# EAGLE library part EL84 (library E88CC)
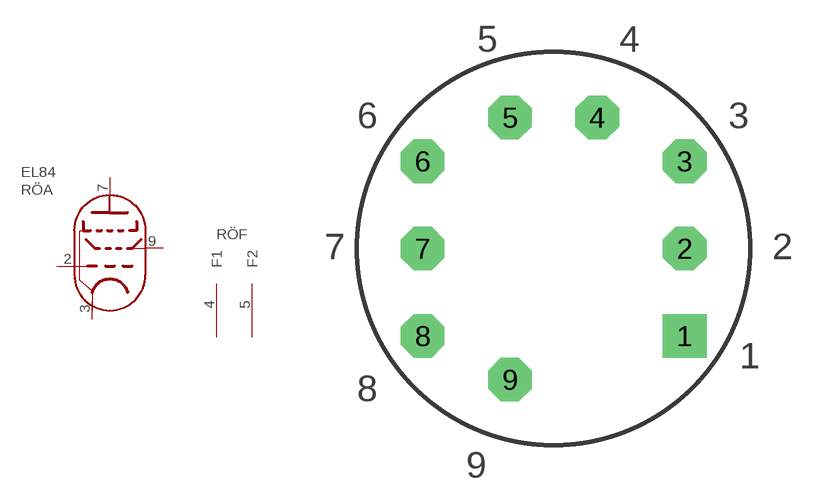
[diagram p0: symbol with the pads of NOVAL_P; footprint NOVAL_P]

Designator prefix RÖ; gates A=PENTODEA F=FADEN

## EL84  [NOVAL_P]
2  A:G1  in
3  A:K_G3
4  F:F1  pwr
5  F:F2  pwr
7  A:A  out
9  A:G2  in

## Footprint NOVAL_P (pad centres in mm)
drill 1 pad 2.54 square: 1 7.62,-5.08
drill 1 pad 2.54 octagon: 2 7.62,0; 3 7.62,5.08; 4 2.54,7.62; 5 -2.54,7.62; 6 -7.62,5.08; 7 -7.62,0; 8 -7.62,-5.08; 9 -2.54,-7.62